# Altium footprint library 0527930870 FPC8.PcbLib: 1 footprints
Each footprint in its own frame and in the unit in brackets; x right, y up, seen from the top. Pads: shape width x height; smd on the part's side, far side on the other; paste and mask are expansions set on the pad; w line width, h text height; cw(c..) or ccw(c..) is an arc to the next point about the centre after c.
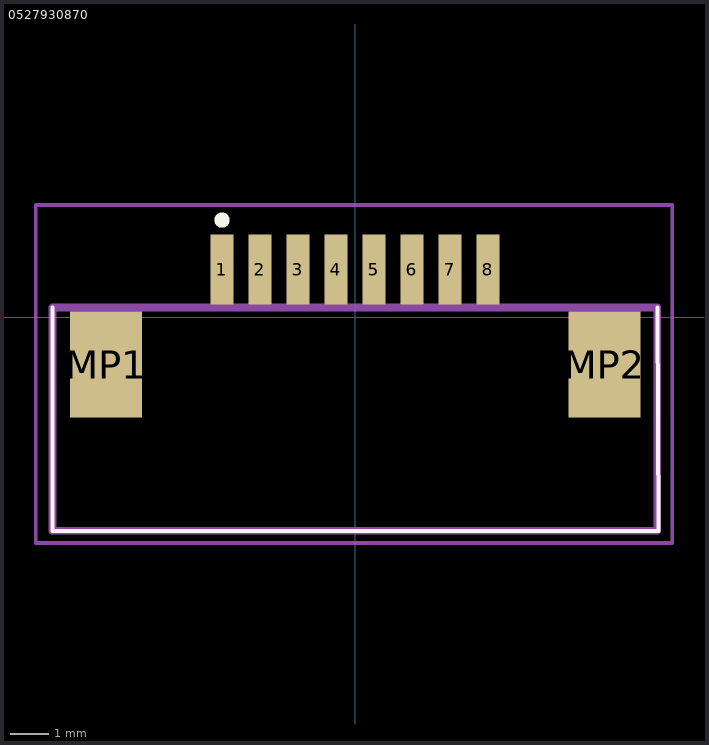
[diagram p0: the footprint, top view; thin cyan lines are the x and y axes]

## 0527930870 [mm]
pads (10):
  rect 0.6x1.85 smd: 1(-3.51,1.25) 2(-2.51,1.25) 3(-1.51,1.25) 4(-0.51,1.25) 5(0.49,1.25) 6(1.49,1.25) 7(2.49,1.25) 8(3.49,1.25)
  rect 1.9x2.8 smd: MP1(-6.56,-1.25) MP2(6.56,-1.25)
Top Overlay:
  lines w0.1: -7.97,0.25 -7.97,-5.629 7.95,-5.629 ; 7.95,0.25 7.982,-5.629
  lines w0.2: -3.61,2.55 ccw(c-3.51,2.55) -3.41,2.55 ccw(c-3.51,2.55) -3.61,2.55
Mechanical 13:
  lines w0.2: -7.97,-5.629 -7.97,0.25 7.95,0.25 7.95,-5.629 -7.97,-5.629
Mechanical 15:
  lines w0.1: -8.41,-5.95 -8.41,2.95 8.34,2.95 8.34,-5.95 -8.41,-5.95
3D body "527930870 FPC8.stp": height 3.1, standoff 0, extent -7.185,-4.85 7.115,1.95